# EAGLE library part ISO1540 (library serial_interfaces)
Low-Power Bidirectional I2C Isolators
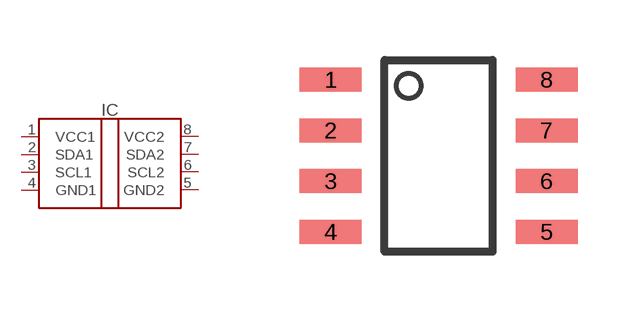
[diagram p13: symbol with the pads of SOIC8; footprint SOIC8]

Designator prefix IC

## ISO1540 (MANF: Texas Instruments; MANF#: ISO1540D)  [SOIC8]
1  VCC1
2  SDA1
3  SCL1
4  GND1
5  GND2
6  SCL2
7  SDA2
8  VCC2

## Footprint SOIC8 (pad centres in mm)
https://www.ti.com/lit/ds/snvsaq5a/snvsaq5a.pdf?ts=1602424164509
smd 1.55 x 0.6: 1 -2.7,1.905; 2 -2.7,0.635; 3 -2.7,-0.635; 4 -2.7,-1.905; 5 2.7,-1.905; 6 2.7,-0.635; 7 2.7,0.635; 8 2.7,1.905